# EAGLE library part BMP388 (library BMP388)
P-Sensor SPI I2C 1, 25 Bar SMD
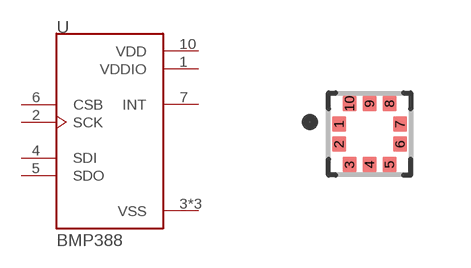
[diagram p0: symbol with the pads of PQFN50P200X200X80-10N; footprint PQFN50P200X200X80-10N]

Designator prefix U

## BMP388 (Description: Pressure Sensor 4.35PSI ~ 18.13PSI (30kPa ~ 125kPa) Absolute 10-WFLGA; Digi-Key_Part_Number: 828-1079-1-ND; MF: Bosch Sensortec; MP: BMP388; Package: WFLGA-10 Bosch Tools; Purchase-URL: https://pricing.snapeda.com/search/part/BMP388/?ref=eda)  [PQFN50P200X200X80-10N]
1  VDDIO  pwr
2  SCK  in
3  VSS  pwr
4  SDI
5  SDO
6  CSB  in
7  INT  out
8  VSS  pwr
9  VSS  pwr
10  VDD  pwr

## Footprint PQFN50P200X200X80-10N (pad centres in mm)
smd 0.35 x 0.38: 1 -0.765,0.25; 2 -0.765,-0.25; 3 -0.5,-0.765; 4 0,-0.765; 5 0.5,-0.765; 6 0.765,-0.25; 7 0.765,0.25; 8 0.5,0.765; 9 0,0.765; 10 -0.5,0.765